# Altium schematic symbol library lib_linearsystems.SchLib: 5 symbols
Pins are listed as number, name and electrical type; pins without a type are passive.

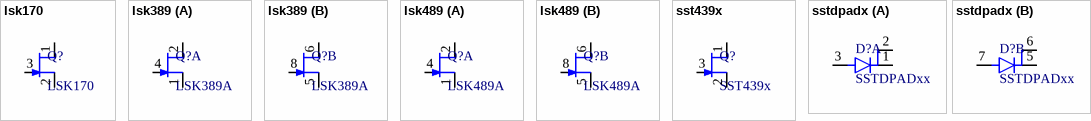
[diagram p0: symbols lsk170 to sstdpadx]

## lsk170
designator Q?, comment LSK170
High Input Impedance, Ultra-Low Noise, Single N-Channel JFET
footprint SOT95P237X112-3N_LSK170 (SOT23, 3-Leads, Body 2.92x2.37mm, Pitch 0.95mm, IPC Medium Density)
pins: 1 D, 2 S, 3 G

## lsk389
designator Q?, comment LSK389A
Ultra Low Noise Monolithic Dual N-Channel JFET Amplifier; ComponentLink1Description: Datasheet; ComponentLink1URL: https://www.linearsystems.com/lsdata/datasheets/Copy_201122%20-%20LSK389%20Datasheet%20Rev%20A24%202020%2001%2007.pdf
footprint SOIC127P600X145-8N_LSK389 (SOIC, 8-Leads, Body 4.90x3.90mm, Pitch 1.27mm, IPC Medium Density)
part A pins: 1 S1, 2 D1, 4 G1
part B pins: 5 S2, 6 D2, 8 G2

## lsk489
designator Q?, comment LSK489A
LOW NOISE LOW CAPACITANCE / MONOLITHIC DUAL / N-CHANNEL JFET AMPLIFIER; ComponentLink1Description: Datasheet; ComponentLink1URL: https://www.linearsystems.com/lsdata/datasheets/Copy_201122%20-%20LSK389%20Datasheet%20Rev%20A24%202020%2001%2007.pdf
footprint SOIC127P600X145-8N_LSK389 (SOIC, 8-Leads, Body 4.90x3.90mm, Pitch 1.27mm, IPC Medium Density)
part A pins: 1 S1, 2 D1, 4 G1
part B pins: 5 S2, 6 D2, 8 G2

## sst439x
designator Q?, comment SST439x
SINGLE N-CHANNEL JFET SWITCH
footprint SOT95P237X112-3N_LSK170 (SOT23, 3-Leads, Body 2.92x2.37mm, Pitch 0.95mm, IPC Medium Density)
pins: 1 D, 2 S, 3 G

## sstdpadx
designator D?, comment SSTDPADxx
MONOLITHIC DUAL PICO AMPERE DIODES
footprint SOIC127P600X145-8N_DPAD (SOIC, 8-Leads, Body 4.90x3.90mm, Pitch 1.27mm, IPC Medium Density)
part A pins: 1 C1, 2 C1, 3 A1
part B pins: 5 C2, 6 C2, 7 A2